# Altium footprint library MC.PcbLib: 4 footprints
Each footprint in its own frame and in the unit in brackets; x right, y up, seen from the top. Pads: shape width x height; smd on the part's side, far side on the other; paste and mask are expansions set on the pad; w line width, h text height; cw(c..) or ccw(c..) is an arc to the next point about the centre after c.
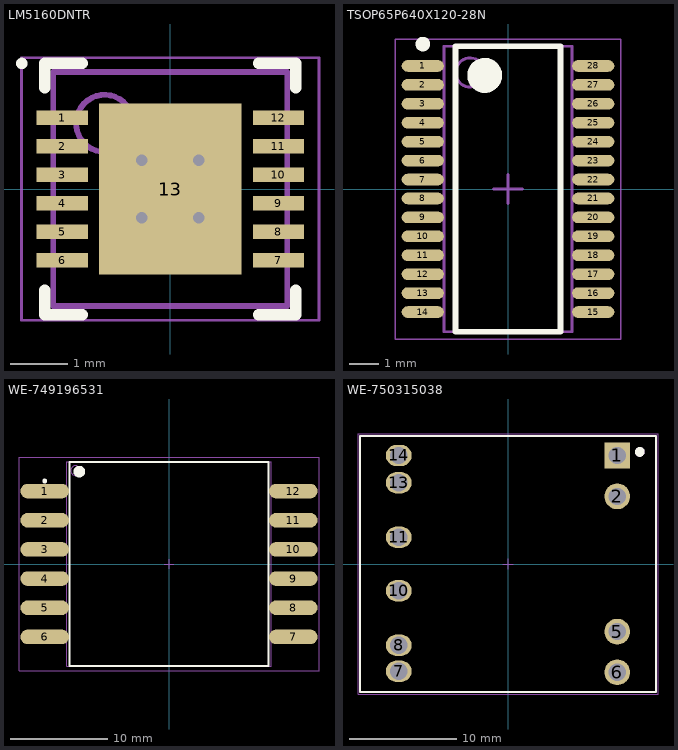
[diagram p0: the footprints below, top view; thin cyan lines are the x and y axes]

## LM5160DNTR [mm] "SON, 12-Leads, Body 4.00x4.00mm, Pitch 0.50mm, Thermal Pad 3.00x2.49mm, IPC Medium Density"
height 1
pads (13):
  rect 0.9x0.25 smd: 1(-1.895,1.25) 2(-1.895,0.75) 3(-1.895,0.25) 4(-1.895,-0.25) 5(-1.895,-0.75) 6(-1.895,-1.25) 7(1.895,-1.25) 8(1.895,-0.75) 9(1.895,-0.25) 10(1.895,0.25) 11(1.895,0.75) 12(1.895,1.25)
  rect 2.49x3 smd paste-1.245: 13(0,0)
via 0.5,-0.5 diameter 0.5 hole 0.2
via 0.5,0.5 diameter 0.5 hole 0.2
via -0.5,0.5 diameter 0.5 hole 0.2
via -0.5,-0.5 diameter 0.5 hole 0.2
Top Overlay:
  circle w0.1: c-2.6,2.2 r0.05
  lines w0.2: -2.2,-1.775 -2.2,-2.2 -1.545,-2.2 ; -2.2,1.775 -2.2,2.2 -1.545,2.2 ; 1.545,-2.2 2.2,-2.2 2.2,-1.775 ; 1.545,2.2 2.2,2.2 2.2,1.775
Top Paste:
  rectangle: 0.1,-1.4 1.15,-0.1
  rectangle: 0.1,0.1 1.15,1.4
  rectangle: -1.15,-1.4 -0.1,-0.1
  rectangle: -1.15,0.1 -0.1,1.4
Mechanical 13:
  circle w0.1: c-1.15,1.15 r0.5
  lines w0.1: -2.05,-2.05 2.05,-2.05 2.05,2.05 -2.05,2.05 -2.05,-2.05
Mechanical 15:
  lines w0.05: -2.605,-2.3 2.605,-2.3 2.605,2.3 -2.605,2.3 -2.605,-2.3
  lines w0.1: -0.5,0 0.5,0 ; 0,-0.5 0,0.5
3D body "LM5160DNTR.step": height 1, standoff 0, extent -2.13,-2.05 2.13,2.05

## TSOP65P640X120-28N [mm] "TSOP, 28-Leads, Body 9.70x4.40mm, Pitch 0.65mm, IPC Medium Density"
height 1.2
pads (28):
  oval 1.45x0.4 smd: 1(-2.925,4.225) 2(-2.925,3.575) 3(-2.925,2.925) 4(-2.925,2.275) 5(-2.925,1.625) 6(-2.925,0.975) 7(-2.925,0.325) 8(-2.925,-0.325) 9(-2.925,-0.975) 10(-2.925,-1.625) 11(-2.925,-2.275) 12(-2.925,-2.925) 13(-2.925,-3.575) 14(-2.925,-4.225) 15(2.925,-4.225) 16(2.925,-3.575) 17(2.925,-2.925) 18(2.925,-2.275) 19(2.925,-1.625) 20(2.925,-0.975) 21(2.925,-0.325) 22(2.925,0.325) 23(2.925,0.975) 24(2.925,1.625) 25(2.925,2.275) 26(2.925,2.925) 27(2.925,3.575) 28(2.925,4.225)
Top Overlay:
  circle w0.6: c-0.8,3.9 r0.3
  circle w0.25: c-2.925,4.975 r0.125
  lines w0.2: -1.8,-4.9 1.8,-4.9 1.8,4.9 -1.8,4.9 -1.8,-4.9
Mechanical 13:
  circle w0.1: c-1.3,4 r0.5
  lines w0.1: -2.2,-4.9 2.2,-4.9 2.2,4.9 -2.2,4.9 -2.2,-4.9
Mechanical 15:
  lines w0.05: -3.875,-5.15 3.875,-5.15 3.875,5.15 -3.875,5.15 -3.875,-5.15
  lines w0.1: -0.5,0 0.5,0 ; 0,-0.5 0,0.5
3D body: height 1.2, standoff 0.1, extent -2.2,-4.9 2.2,4.9

## WE-749196531 [mm]
height 10.8
pads (12):
  oval 5x1.5 smd: 1(-12.775,7.5) 2(-12.775,4.5) 3(-12.775,1.5) 4(-12.775,-1.5) 5(-12.775,-4.5) 6(-12.775,-7.5) 7(12.775,-7.5) 8(12.775,-4.5) 9(12.775,-1.5) 10(12.775,1.5) 11(12.775,4.5) 12(12.775,7.5)
Top Overlay:
  circle w0.6: c-9.225,9.5 r0.3
  circle w0.25: c-12.775,8.525 r0.125
  lines w0.2: -10.225,-10.5 10.225,-10.5 10.225,10.5 -10.225,10.5 -10.225,-10.5
Mechanical 13:
  circle w0.1: c-9.6,9.6 r0.5
  lines w0.1: -10.5,-10.5 10.5,-10.5 10.5,10.5 -10.5,10.5 -10.5,-10.5
Mechanical 15:
  lines w0.05: -15.425,-11 15.425,-11 15.425,11 -15.425,11 -15.425,-11
  lines w0.1: -0.5,0 0.5,0 ; 0,-0.5 0,0.5
3D body "749196531_Download_STP_749196531_rev1.stp": height 10.75, standoff -0.05, extent -14.75,-10.5 14.75,10.5

## WE-750315038 [mm]
height 24.14
pads (10):
  rect 2.4x2.4 hole 1.6: 1(10.19,10.12)
  round 2.4 hole 1.6: 2(10.19,6.31) 5(10.19,-6.31) 6(10.19,-10.1)
  oval 2.4x2 hole 1.6: 7(-10.19,-10) 8(-10.19,-7.58) 10(-10.19,-2.5) 11(-10.19,2.5) 13(-10.19,7.58) 14(-10.19,10.12)
Top Overlay:
  circle w0.5: c12.29,10.45 r0.2
  lines w0.2: -13.79,-11.95 -13.79,11.95 13.79,11.95 13.79,-11.95 -13.79,-11.95
Mechanical 13:
  circle w0.5: c12.29,10.45 r0.2
  lines w0.1: -13.79,-11.95 13.79,-11.95 13.79,11.95 -13.79,11.95 -13.79,-11.95
Mechanical 15:
  lines w0.05: -0.5,0 0.5,0 ; 0,-0.5 0,0.5 ; -13.99,-12.15 -13.99,12.15 13.99,12.15 13.99,-12.15 -13.99,-12.15
3D body "PQ2020STP.STEP": height 22.1, standoff -5.92, extent -11.58,-11.575 11.58,11.575